# EAGLE library part ISL95811UFUZ (library president_george)
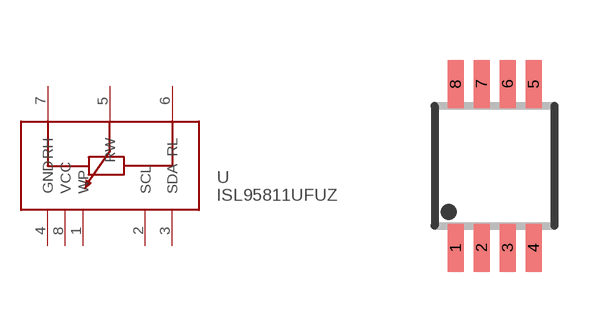
[diagram p2: symbol with the pads of MSOP8; footprint MSOP8]

Designator prefix -

## ISL95811UFUZ  [MSOP8]
1  WP
2  SCL
3  SDA  in
4  GND  pwr
5  RW
6  RL
7  RH
8  VCC  pwr

## Footprint MSOP8 (pad centres in mm)
MSOP8
smd 0.4 x 1.2: 1 -0.975,-2.05; 2 -0.325,-2.05; 3 0.325,-2.05; 4 0.975,-2.05; 5 0.975,2.05; 6 0.325,2.05; 7 -0.325,2.05; 8 -0.975,2.05